# Altium schematic symbol library VREF 1.5V V ±0.5 7 mA.SchLib: 2 symbols
Pins are listed as number, name and electrical type; pins without a type are passive.

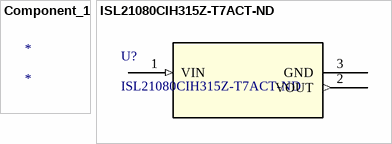
[diagram p0: symbols Component_1 to ISL21080CIH315Z-T7ACT-ND]

## Component_1
designator *

## ISL21080CIH315Z-T7ACT-ND
designator U?
No Description Available; Mfr_Name: Renesas Electronics; Copyright: Copyright (C) 2022 Ultra Librarian. All rights reserved.; Manufacturer_Part_Number: ISL21080CIH315Z-T7ACT-ND; RefDes: RefDes; Type: DEV
footprint VREF 1.5V V ±0.5 7 mA (Footprint not found)
pins: 1 VIN (in), 2 VOUT (out), 3 GND (power)